# EAGLE library part G125-MH12005M4P (library ds_con)
10+10 Pos. Male DIL Horizontal Throughboard Conn. Screw-Lok Board Mount
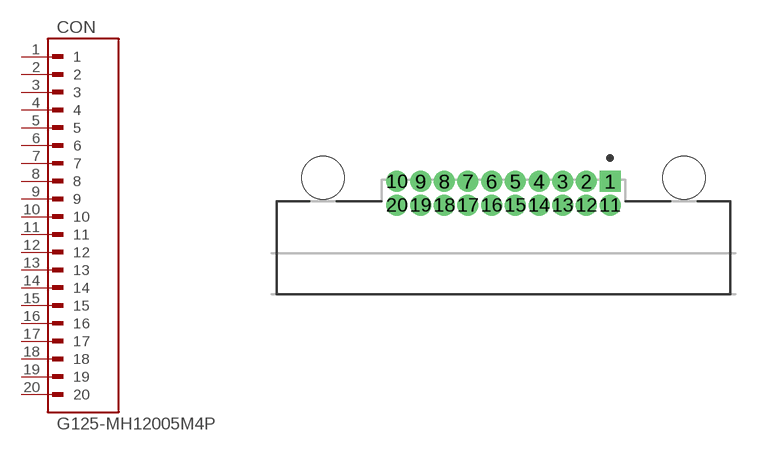
[diagram p34: symbol with the pads of G125-MH12005M4P; footprint G125-MH12005M4P]

Designator prefix CON

## G125-MH12005M4P  [G125-MH12005M4P]
1  1  pas
2  2  pas
3  3  pas
4  4  pas
5  5  pas
6  6  pas
7  7  pas
8  8  pas
9  9  pas
10  10  pas
11  11  pas
12  12  pas
13  13  pas
14  14  pas
15  15  pas
16  16  pas
17  17  pas
18  18  pas
19  19  pas
20  20  pas

## Footprint G125-MH12005M4P (pad centres in mm)
drill 0.6 pad 1 square: 1 5.625,3.5
drill 0.6 pad 1: 2 4.375,3.5; 3 3.125,3.5; 4 1.875,3.5; 5 0.625,3.5; 6 -0.625,3.5; 7 -1.875,3.5; 8 -3.125,3.5; 9 -4.375,3.5; 10 -5.625,3.5; 11 5.625,2.25; 12 4.375,2.25; 13 3.125,2.25; 14 1.875,2.25; 15 0.625,2.25; 16 -0.625,2.25; 17 -1.875,2.25; 18 -3.125,2.25; 19 -4.375,2.25; 20 -5.625,2.25
hole 2.25 at -9.525,3.7
hole 2.25 at 9.525,3.7